# Altium footprint library ethernet.PcbLib: 1 footprints
Each footprint in its own frame and in the unit in brackets; x right, y up, seen from the top. Pads: shape width x height; smd on the part's side, far side on the other; paste and mask are expansions set on the pad; w line width, h text height; cw(c..) or ccw(c..) is an arc to the next point about the centre after c.
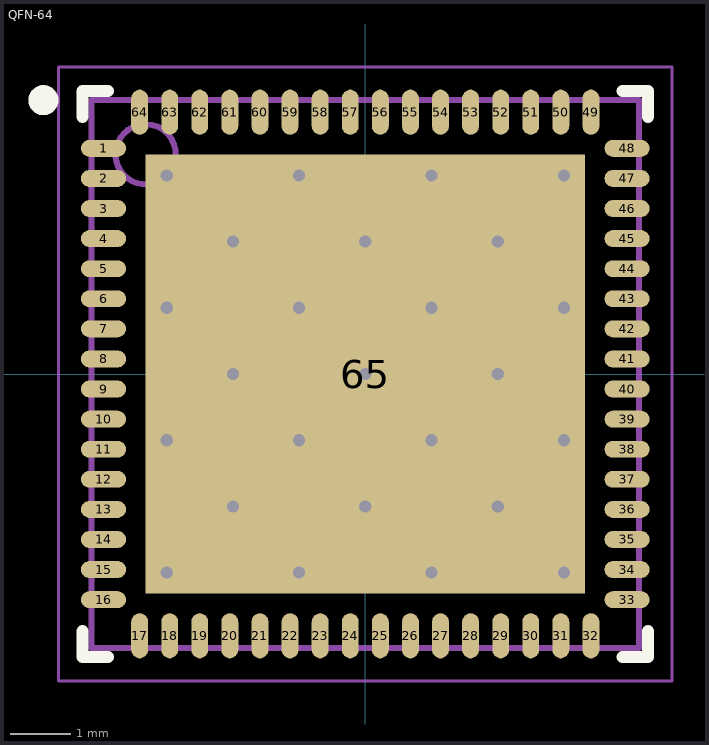
[diagram p0: the footprint, top view; thin cyan lines are the x and y axes]

## QFN-64 [mm] "QFN, 64-Leads, Body 9.00x9.00mm, Pitch 0.50mm, Thermal Pad 7.30x7.30mm, IPC Medium Density"
height 1
pads (65):
  oval 0.75x0.28 smd: 1(-4.35,3.75) 2(-4.35,3.25) 3(-4.35,2.75) 4(-4.35,2.25) 5(-4.35,1.75) 6(-4.35,1.25) 7(-4.35,0.75) 8(-4.35,0.25) 9(-4.35,-0.25) 10(-4.35,-0.75) 11(-4.35,-1.25) 12(-4.35,-1.75) 13(-4.35,-2.25) 14(-4.35,-2.75) 15(-4.35,-3.25) 16(-4.35,-3.75) 33(4.35,-3.75) 34(4.35,-3.25) 35(4.35,-2.75) 36(4.35,-2.25) 37(4.35,-1.75) 38(4.35,-1.25) 39(4.35,-0.75) 40(4.35,-0.25) 41(4.35,0.25) 42(4.35,0.75) 43(4.35,1.25) 44(4.35,1.75) 45(4.35,2.25) 46(4.35,2.75) 47(4.35,3.25) 48(4.35,3.75)
  oval 0.28x0.75 smd: 17(-3.75,-4.35) 18(-3.25,-4.35) 19(-2.75,-4.35) 20(-2.25,-4.35) 21(-1.75,-4.35) 22(-1.25,-4.35) 23(-0.75,-4.35) 24(-0.25,-4.35) 25(0.25,-4.35) 26(0.75,-4.35) 27(1.25,-4.35) 28(1.75,-4.35) 29(2.25,-4.35) 30(2.75,-4.35) 31(3.25,-4.35) 32(3.75,-4.35) 49(3.75,4.35) 50(3.25,4.35) 51(2.75,4.35) 52(2.25,4.35) 53(1.75,4.35) 54(1.25,4.35) 55(0.75,4.35) 56(0.25,4.35) 57(-0.25,4.35) 58(-0.75,4.35) 59(-1.25,4.35) 60(-1.75,4.35) 61(-2.25,4.35) 62(-2.75,4.35) 63(-3.25,4.35) 64(-3.75,4.35)
  rect 7.3x7.3 smd: 65(0,0)
via -3.3,3.3 diameter 0.457 hole 0.203
via -1.1,3.3 diameter 0.457 hole 0.203
via 1.1,3.3 diameter 0.457 hole 0.203
via 3.3,3.3 diameter 0.457 hole 0.203
via -2.2,2.2 diameter 0.457 hole 0.203
via 0,2.2 diameter 0.457 hole 0.203
via 2.2,2.2 diameter 0.457 hole 0.203
via -3.3,1.1 diameter 0.457 hole 0.203
via -1.1,1.1 diameter 0.457 hole 0.203
via 1.1,1.1 diameter 0.457 hole 0.203
via 3.3,1.1 diameter 0.457 hole 0.203
via -2.2,0 diameter 0.457 hole 0.203
via 0,0 diameter 0.457 hole 0.203
via 2.2,0 diameter 0.457 hole 0.203
via -3.3,-1.1 diameter 0.457 hole 0.203
via -1.1,-1.1 diameter 0.457 hole 0.203
via 1.1,-1.1 diameter 0.457 hole 0.203
via 3.3,-1.1 diameter 0.457 hole 0.203
via -2.2,-2.2 diameter 0.457 hole 0.203
via 0,-2.2 diameter 0.457 hole 0.203
via 2.2,-2.2 diameter 0.457 hole 0.203
via -3.3,-3.3 diameter 0.457 hole 0.203
via -1.1,-3.3 diameter 0.457 hole 0.203
via 1.1,-3.3 diameter 0.457 hole 0.203
via 3.3,-3.3 diameter 0.457 hole 0.203
Top Overlay:
  circle w0.25: c-5.35,4.55 r0.125
  lines w0.2: -4.7,-4.275 -4.7,-4.7 -4.275,-4.7 ; -4.7,4.275 -4.7,4.7 -4.275,4.7 ; 4.275,-4.7 4.7,-4.7 4.7,-4.275 ; 4.275,4.7 4.7,4.7 4.7,4.275
Mechanical 13:
  circle w0.1: c-3.65,3.65 r0.5
  lines w0.1: -4.55,-4.55 -4.55,4.55 4.55,4.55 4.55,-4.55 -4.55,-4.55
Mechanical 15:
  lines w0.05: -5.1,-5.1 -5.1,5.1 5.1,5.1 5.1,-5.1 -5.1,-5.1
  lines w0.1: -0.5,0 0.5,0 ; 0,-0.5 0,0.5
3D body: height 1, standoff 0, extent -4.55,-4.55 4.55,4.55